# EAGLE library part VENUS634FLPX (library trackuino)
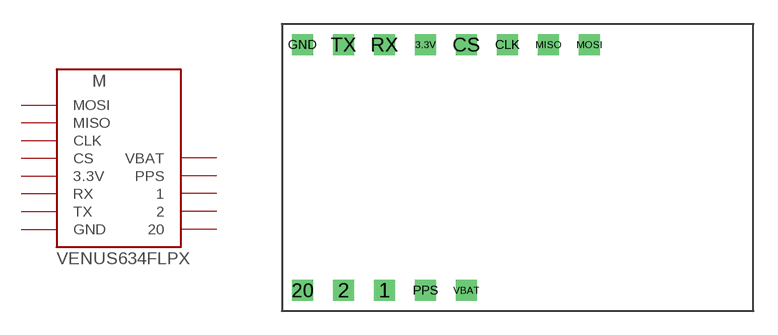
[diagram p1: symbol with the pads of VENUS634FLPX; footprint VENUS634FLPX]

Designator prefix M

## VENUS634FLPX  [VENUS634FLPX]
1  1
2  2
3.3V  3.3V
20  20
CLK  CLK
CS  CS
GND  GND
MISO  MISO
MOSI  MOSI
PPS  PPS
RX  RX
TX  TX
VBAT  VBAT

## Footprint VENUS634FLPX (pad centres in mm)
drill 0.8 square: 1 6.35,1.27; 2 3.81,1.27; 3.3V 8.89,16.51; 20 1.27,1.27; CLK 13.97,16.51; CS 11.43,16.51; GND 1.27,16.51; MISO 16.51,16.51; MOSI 19.05,16.51; PPS 8.89,1.27; RX 6.35,16.51; TX 3.81,16.51; VBAT 11.43,1.27